# Altium integrated library BLM18AG102SN1D_Ferrite Bead.IntLib: 1 symbol
Pins are listed as number, name and electrical type; pins without a type are passive.

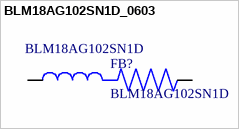
[diagram p0: symbol BLM18AG102SN1D_0603]

## BLM18AG102SN1D_0603
designator FB?, comment BLM18AG102SN1D
1 kOhms @ 100 MHz 1 Ferrite Bead 0603 (1608 Metric) 450mA 500mOhm; MF: Murata; MP: BLM03EB500SZ1D; Check_prices: https://www.snapeda.com/parts/BLM03EB500SZ1D/Murata/view-part/2737591/?ref=eda; Value: *; SnapEDA_Link: https://www.snapeda.com/parts/BLM03EB500SZ1D/Murata/view-part/2737591/?ref=snap; Package: 0603 Murata; Availability: Warning; Price: None; Supplier 1: Arrow Electronics; Supplier Part Number 1: BLM18AG102SN1D
footprint BEADC0603X33N
pins: 1, 2